# EAGLE library part M03X2 (library SKAARHOJ)
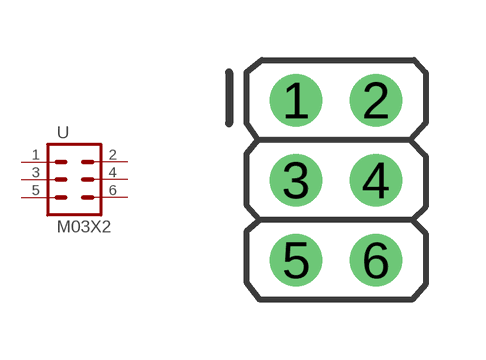
[diagram p54: symbol with the pads of M2X3_2MM; footprint M2X3_2MM]

Designator prefix -

## M03X2  [M2X3_2MM]
1  1  pas
2  2  pas
3  3  pas
4  4  pas
5  5  pas
6  6  pas

## Footprint M2X3_2MM (pad centres in mm)
drill 0.8: 1 -1,1.73; 2 1,1.73; 3 -1,-0.27; 4 1,-0.27; 5 -1,-2.27; 6 1,-2.27